# Altium schematic symbol library adm101earm.SchLib: 1 symbol
Pins are listed as number, name and electrical type; pins without a type are passive.

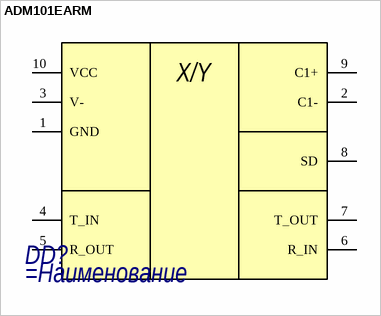
[diagram p0: symbol ADM101EARM]

## ADM101EARM
designator DD?
=Описание
pins: 1 GND, 2 C1-, 3 V-, 4 T_IN, 5 R_OUT, 6 R_IN, 7 T_OUT, 8 SD, 9 C1+, 10 VCC
text: X/Y